# Altium footprint library 散热片.PcbLib: 10 footprints
Each footprint in its own frame and in the unit in brackets; x right, y up, seen from the top. Pads: shape width x height; smd on the part's side, far side on the other; paste and mask are expansions set on the pad; w line width, h text height; cw(c..) or ccw(c..) is an arc to the next point about the centre after c.
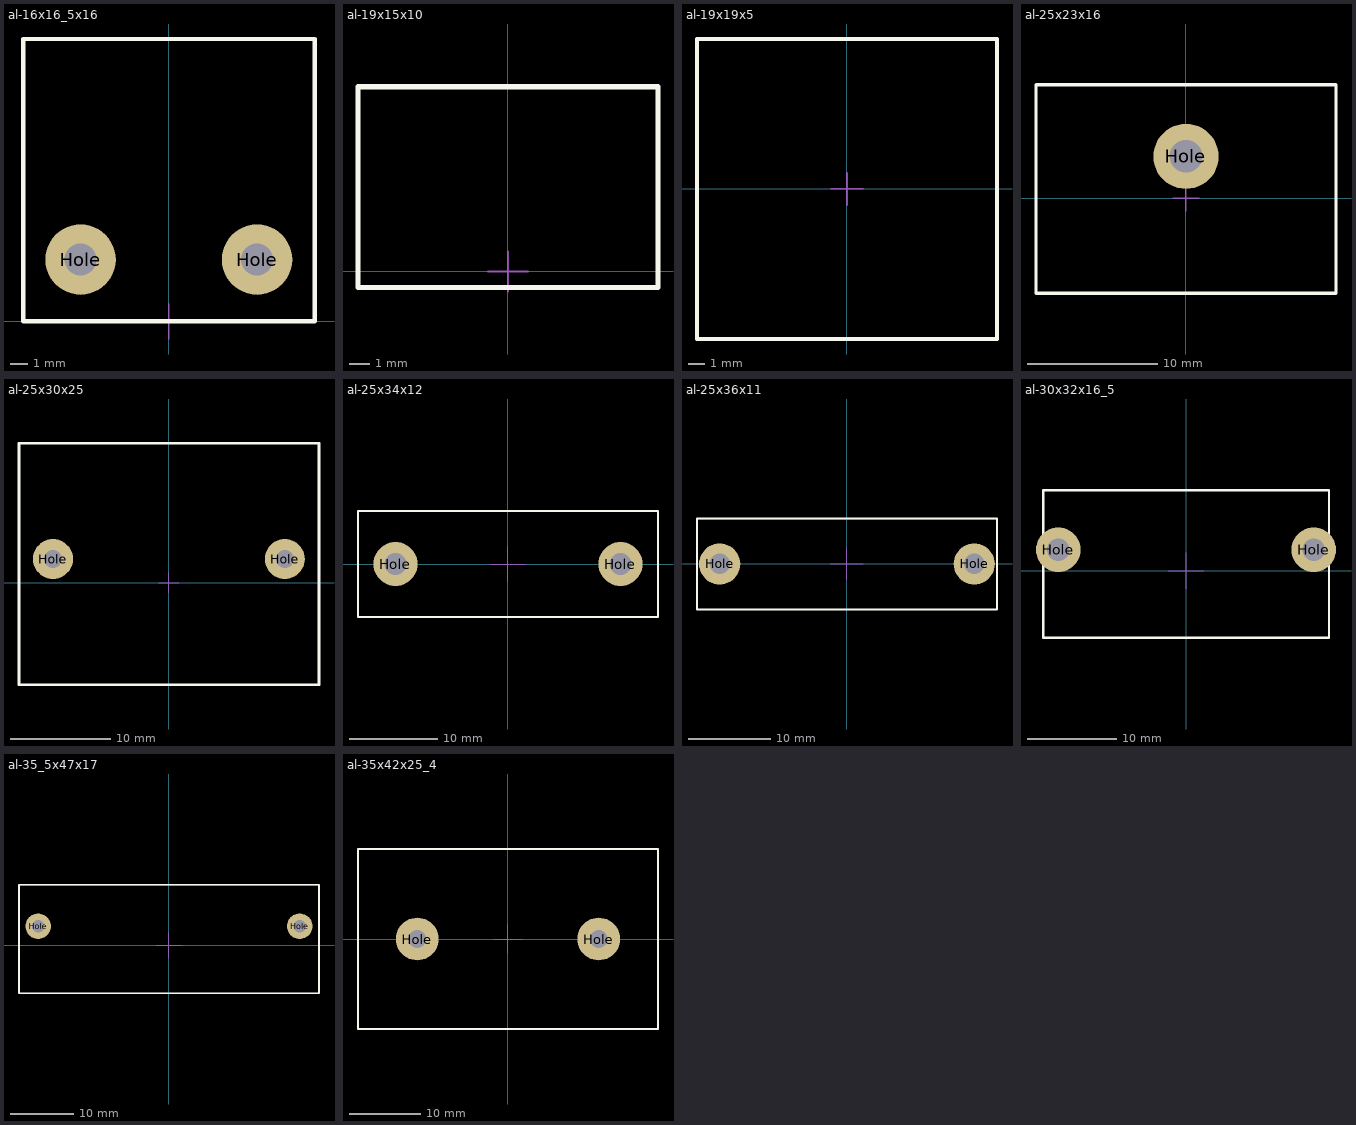
[diagram p0: the footprints below, top view; thin cyan lines are the x and y axes]

## al-16x16_5x16 [mm] "铝散热片"
height 16
pads (2):
  round 4 hole 1.8: Hole(-5,3.5) Hole(5,3.5)
Top Overlay:
  lines w0.254: -8.25,0 -8.25,16 8.27,16 8.27,0 -8.25,0
Mechanical 13:
  lines w0.1: -8.25,0 8.27,0 8.27,16 -8.25,16 -8.25,0
Mechanical 15:
  lines w0.1: -1,0 1,0 ; 0,-1 0,1
3D body: height 25, standoff -5, extent -8.25,0 8.27,16

## al-19x15x10 [mm] "铝散热片"
height 19
Top Overlay:
  lines w0.254: -7.5,-0.81 7.5,-0.81 7.5,9.227 -7.5,9.227 -7.5,-0.81
Mechanical 13:
  lines w0.1: -7.5,-0.81 7.5,-0.81 7.5,9.227 -7.5,9.227 -7.5,-0.81
Mechanical 15:
  lines w0.1: -1,0 1,0 ; 0,-1 0,1
3D body: height 19, standoff 0, extent -7.5,-0.81 7.5,9.227

## al-19x19x5 [mm] "铝散热片"
height 5
Top Overlay:
  lines w0.254: -9.25,-9.26 9.25,-9.26 9.25,9.24 -9.25,9.24 -9.25,-9.26
Mechanical 13:
  lines w0.1: -9.25,-9.26 9.25,-9.26 9.25,9.24 -9.25,9.24 -9.25,-9.26
Mechanical 15:
  lines w0.1: -1,0 1,0 ; 0,-1 0,1
3D body: height 5, standoff 0, extent -9.25,-9.26 9.25,9.24

## al-25x23x16 [mm] "铝散热片"
height 25
pads (1):
  round 5 hole 2.5: Hole(0,3.2)
Top Overlay:
  lines w0.254: -11.5,-7.3 -11.5,8.7 11.5,8.7 11.5,-7.3 -11.5,-7.3
Mechanical 13:
  lines w0.1: -11.5,-7.3 -11.5,8.7 11.5,8.7 11.5,-7.3 -11.5,-7.3
Mechanical 15:
  lines w0.1: -1,0 1,0 ; 0,-1 0,1
3D body: height 25, standoff -5, extent -11.5,-7.3 11.5,8.7

## al-25x30x25 [mm] "铝散热片"
height 25
pads (2):
  round 4 hole 1.8: Hole(-11.6,2.4) Hole(11.6,2.4)
Top Overlay:
  lines w0.254: -15,-10.2 -15,14 15.02,14 15.02,-10.2 -15,-10.2
Mechanical 13:
  lines w0.1: -15,-10.2 -15,14 15.02,14 15.02,-10.2 -15,-10.2
Mechanical 15:
  lines w0.1: -1,0 1,0 ; 0,-1 0,1
3D body: height 25, standoff -5, extent -15,-10.2 15.02,14

## al-25x34x12 [mm] "铝散热片"
height 25
pads (2):
  round 5 hole 2.5: Hole(-12.75,0) Hole(12.75,0)
Top Overlay:
  lines w0.254: -17,-6 17,-6 17,6 -17,6 -17,-6
Mechanical 13:
  lines w0.1: -17,-6 17,-6 17,6 -17,6 -17,-6
Mechanical 15:
  lines w0.1: -2,0 2,0 ; 0,-2 0,2
3D body: height 25, standoff -5, extent -17,-6 17,6

## al-25x36x11 [mm] "铝散热片"
height 25
pads (2):
  round 5 hole 2.5: Hole(-15.45,0) Hole(15.45,0)
Top Overlay:
  lines w0.254: -18.2,-5.51 18.21,-5.51 18.21,5.49 -18.2,5.49 -18.2,-5.51
Mechanical 13:
  lines w0.1: -18.2,-5.51 18.21,-5.51 18.21,5.49 -18.2,5.49 -18.2,-5.51
Mechanical 15:
  lines w0.1: -2,0 2,0 ; 0,-2 0,2
3D body: height 25, standoff -5, extent -18.2,-5.51 18.21,5.49

## al-30x32x16_5 [mm] "铝散热片"
height 30
pads (2):
  round 5 hole 2.5: Hole(-14.3,2.35) Hole(14.3,2.35)
Top Overlay:
  lines w0.254: -16,-7.5 16.02,-7.5 16.02,9 -16,9 -16,-7.5
Mechanical 13:
  lines w0.1: -16,-7.5 16.02,-7.5 16.02,9 -16,9 -16,-7.5
Mechanical 15:
  lines w0.1: -2,0 2,0 ; 0,-2 0,2
3D body: height 30, standoff -5, extent -16,-7.5 16.02,9

## al-35_5x47x17 [mm] "铝散热片"
height 35.5
pads (2):
  round 4 hole 2: Hole(-20.5,3) Hole(20.5,3)
Top Overlay:
  lines w0.254: -23.5,-7.5 -23.5,9.5 23.52,9.5 23.52,-7.5 -23.5,-7.5
Mechanical 13:
  lines w0.1: -23.5,-7.5 -23.5,9.5 23.52,9.5 23.52,-7.5 -23.5,-7.5
Mechanical 15:
  lines w0.1: -2,0 2,0 ; 0,-2 0,2
3D body: height 35.5, standoff -5, extent -23.5,-7.5 23.52,9.5

## al-35x42x25_4 [mm] "铝散热片"
height 35
pads (2):
  round 6 hole 2.5: Hole(-12.7,0) Hole(12.7,0)
Top Overlay:
  lines w0.254: -21,-12.6 21,-12.6 21,12.6 -21,12.6 -21,-12.6
Mechanical 13:
  lines w0.1: -21,-12.573 21,-12.573 21,12.6 -21,12.6 -21,-12.573
Mechanical 15:
  lines w0.1: -2,0 2,0 ; 0,-2 0,2
3D body: height 35, standoff -5, extent -21,-12.6 21,12.6